# Altium integrated library ball_dropper_rev3.IntLib: 42 symbols
Pins are listed as number, name and electrical type; pins without a type are passive.

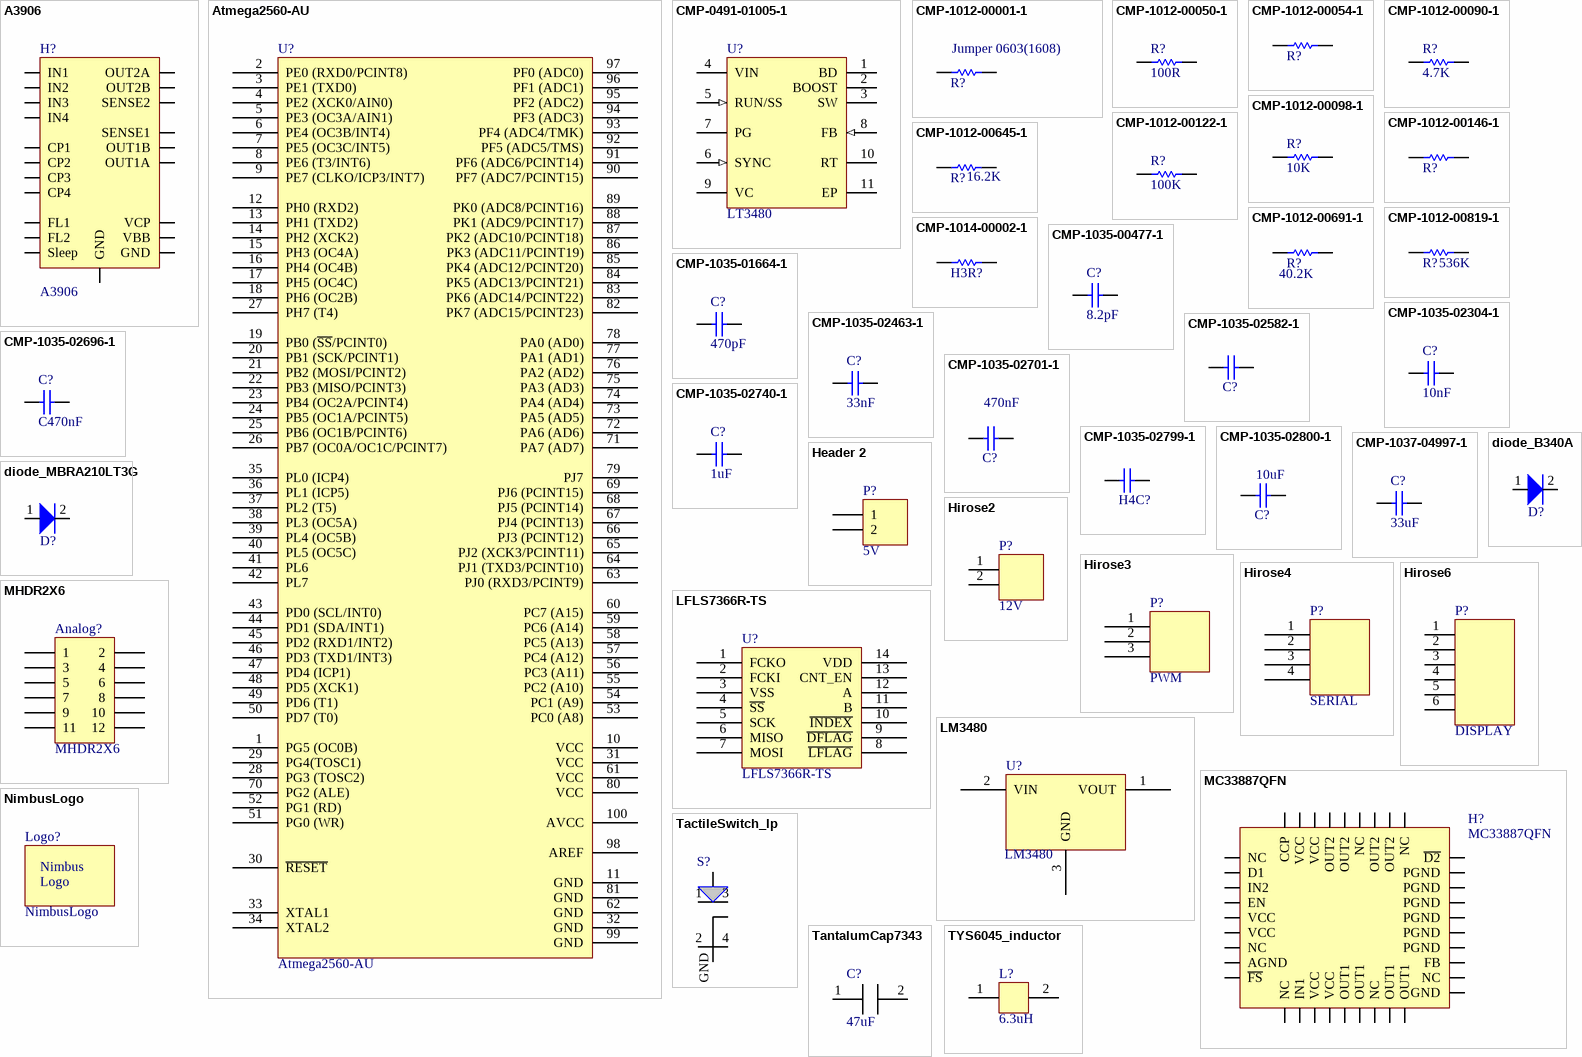
[diagram p0: symbols A3906 to TYS6045_inductor]

## A3906
designator H?
footprint A3906-QFN
pins: 1 CP2, 2 GND, 3 Sleep, 4 IN1, 5 IN2, 6 IN3, 7 IN4, 8 FL1, 9 FL2, 10 OUT2A, 11 SENSE2, 12 OUT2B, 13 VBB, 14 OUT1B, 15 SENSE1, 16 OUT1A, 17 VCP, 18 CP3, 19 CP1, 20 CP4, 21 GND

## Atmega2560-AU
designator U?
ATMEGA2560-16AURCT-ND
footprint TSQFP50P1600X1600X160-100N (TSQFP, 100-Leads, Body 14.00x14.00mm, Pitch 0.50mm, IPC Medium Density)
pins: 1 PG5 (OC0B), 2 PE0 (RXD0/PCINT8), 3 PE1 (TXD0), 4 PE2 (XCK0/AIN0), 5 PE3 (OC3A/AIN1), 6 PE4 (OC3B/INT4), 7 PE5 (OC3C/INT5), 8 PE6 (T3/INT6), 9 PE7 (CLKO/ICP3/INT7), 10 VCC, 11 GND, 12 PH0 (RXD2), 13 PH1 (TXD2), 14 PH2 (XCK2), 15 PH3 (OC4A), 16 PH4 (OC4B), 17 PH5 (OC4C), 18 PH6 (OC2B), 19 PB0 (~{SS}/PCINT0), 20 PB1 (SCK/PCINT1), 21 PB2 (MOSI/PCINT2), 22 PB3 (MISO/PCINT3), 23 PB4 (OC2A/PCINT4), 24 PB5 (OC1A/PCINT5), 25 PB6 (OC1B/PCINT6), 26 PB7 (OC0A/OC1C/PCINT7), 27 PH7 (T4), 28 PG3 (TOSC2), 29 PG4(TOSC1), 30 ~{RESET}, 31 VCC, 32 GND, 33 XTAL1, 34 XTAL2, 35 PL0 (ICP4), 36 PL1 (ICP5), 37 PL2 (T5), 38 PL3 (OC5A), 39 PL4 (OC5B), 40 PL5 (OC5C), 41 PL6, 42 PL7, 43 PD0 (SCL/INT0), 44 PD1 (SDA/INT1), 45 PD2 (RXD1/INT2), 46 PD3 (TXD1/INT3), 47 PD4 (ICP1), 48 PD5 (XCK1), 49 PD6 (T1), 50 PD7 (T0), 51 PG0 (WR), 52 PG1 (RD), 53 PC0 (A8), 54 PC1 (A9), 55 PC2 (A10), 56 PC3 (A11), 57 PC4 (A12), 58 PC5 (A13), 59 PC6 (A14), 60 PC7 (A15), 61 VCC, 62 GND, 63 PJ0 (RXD3/PCINT9), 64 PJ1 (TXD3/PCINT10), 65 PJ2 (XCK3/PCINT11), 66 PJ3 (PCINT12), 67 PJ4 (PCINT13), 68 PJ5 (PCINT14), 69 PJ6 (PCINT15), 70 PG2 (ALE), 71 PA7 (AD7), 72 PA6 (AD6), 73 PA5 (AD5), 74 PA4 (AD4), 75 PA3 (AD3), 76 PA2 (AD2), 77 PA1 (AD1), 78 PA0 (AD0), 79 PJ7, 80 VCC, 81 GND, 82 PK7 (ADC15/PCINT23), 83 PK6 (ADC14/PCINT22), 84 PK5 (ADC13/PCINT21), 85 PK4 (ADC12/PCINT20), 86 PK3 (ADC11/PCINT19), 87 PK2 (ADC10/PCINT18), 88 PK1 (ADC9/PCINT17), 89 PK0 (ADC8/PCINT16), 90 PF7 (ADC7/PCINT15), 91 PF6 (ADC6/PCINT14), 92 PF5 (ADC5/TMS), 93 PF4 (ADC4/TMK), 94 PF3 (ADC3), 95 PF2 (ADC2), 96 PF1 (ADC1), 97 PF0 (ADC0), 98 AREF, 99 GND, 100 AVCC

## CMP-0491-01005-1
designator U?, comment LT3480
2 A, 2.4 MHz Step-Down Switching Regulator with 70 uA Quiescent Current, 10-pin SOP (MSE-10-EDP), -40 to 85 degC, Pb-Free, Tape and Reel; PartNumber: LT3480EMSE#TRPBF; Manufacturer: Linear Technology; Number of Outputs: 1; Over Voltage Protection(V): 60; ComponentLink3Description: Package Specification; PackageVersion: Rev. I, 05/2013; PackageDescription: 10-Pin Plastic MSOP, Exposed Die Pad, Body 3 x 3 mm, Pitch 0.5 mm; ComponentLink1URL: http://www.linear.com/; ComponentLink3URL: http://cds.linear.com/docs/en/packaging/05081664_I_MSE.pdf; ComponentLink1Description: Manufacturer URL; PackageReference: MSE-10; RoHS: TRUE; Packing: Tape and Reel; Mounting Technology: Surface Mount; ComponentLink2Description: Datasheet; ComponentLink2URL: http://cds.linear.com/docs/en/datasheet/3480fe.pdf
footprint LT-MSE-10-EDP_L (SOP, 10-Leads, Body 3.1x3.1mm, Pitch 0.5mm, Thermal Pad 1.88x1.68mm, IPC High Density)
footprint LT-MSE-10-EDP_M (SOP, 10-Leads, Body 3.1x3.1mm, Pitch 0.5mm, Thermal Pad 1.88x1.68mm, IPC Low Density)
footprint LT-MSE-10-EDP_N (SOP, 10-Leads, Body 3.1x3.1mm, Pitch 0.5mm, Thermal Pad 1.88x1.68mm, IPC Medium Density)
pins: 1 BD (power) "This pin connects to the anode of the boost Schottky diode. BD also supplies current to the internal regulator. BD must be locally bypassed when not tied to VOUT with a low ESR capacitor (1uF).", 2 BOOST "This pin is used to provide a drive voltage, higher than the input voltage, to the internal bipolar NPN power switch.", 3 SW (power) "The SW pin is the output of the internal power switch. Connect this pin to the inductor, catch diode and boost capacitor.", 4 VIN (power) "The VIN pin supplies current to the LT3480¡¯s internal regulator and to the internal power switch. This pin must be locally bypassed.", 5 RUN/SS (in) "The RUN/SS pin is used to put the LT3480 in shutdown mode. Tie to ground to shut down the LT3480. Tie to 2.5V or more for normal operation. If the shutdown feature is not used, tie this pin to the VIN pin. RUN/SS also (See Datasheet)", 6 SYNC (in) "This is the external clock synchronization input. Ground this pin for low ripple Burst Mode operation at low output loads. Tie to a clock source for synchronization. Clock edges should have rise and fall times faster than (See Datasheet)", 7 PG (oc) "The PG pin is the open collector output of an internal comparator. PG remains low until the FB pin is within 14% of the final regulation voltage. PG output is valid when VIN is above 3.6V and RUN/SS is high.", 8 FB (in) "The LT3480 regulates the FB pin to 0.790V. Connect the feedback resistor divider tap to this pin.", 9 VC "The VC pin is the output of the internal error amplifier. The voltage on this pin controls the peak switch current. Tie an RC network from this pin to ground to compensate the control loop.", 10 RT "Oscillator Resistor Input. Connecting a resistor to ground from this pin sets the switching frequency.", 11 EP (power) "Ground. The exposed pad must be soldered to PCB."

## CMP-1012-00001-1
designator R?, comment Jumper 0603(1608)
Jumper 0603 (1608 Metric); Case-Metric: 1608; Value: 0.00 Ohm; Power: None; Case-EIA: 0603; Technology: SMT; Tolerance: None
footprint RESC0603(1608)_N (Chip Resistor, Body 1.6x0.8mm, IPC Medium Density)
footprint RESC0603(1608)_L (Chip Resistor, Body 1.6x0.8mm, IPC High Density)
footprint RESC0603(1608)_M (Chip Resistor, Body 1.6x0.8mm, IPC Low Density)
pins: 1, 2
1 alternate drawing of the same symbol

## CMP-1012-00050-1
designator R?, comment 100R
100R 0.1W 5% 0603 (1608 Metric)  SMD; Case-EIA: 0603; Value: 100.00 Ohm; Case-Metric: 1608; Tolerance: 5 %; Technology: SMT; Power: 0.1 W
footprint RESC0603(1608)_L (Chip Resistor, Body 1.6x0.8mm, IPC High Density)
footprint RESC0603(1608)_N (Chip Resistor, Body 1.6x0.8mm, IPC Medium Density)
footprint RESC0603(1608)_M (Chip Resistor, Body 1.6x0.8mm, IPC Low Density)
pins: 1, 2
1 alternate drawing of the same symbol

## CMP-1012-00054-1
designator R?, comment 150R 5% 0603(1608)  (value not drawn)
150R 0.1W 5% 0603 (1608 Metric)  SMD; Case-EIA: 0603; Value: 150.00 Ohm; Case-Metric: 1608; Power: 0.1 W; Tolerance: 5 %; Technology: SMT
footprint RESC0603(1608)_L (Chip Resistor, Body 1.6x0.8mm, IPC High Density)
footprint RESC0603(1608)_N (Chip Resistor, Body 1.6x0.8mm, IPC Medium Density)
footprint RESC0603(1608)_M (Chip Resistor, Body 1.6x0.8mm, IPC Low Density)
pins: 1, 2
1 alternate drawing of the same symbol

## CMP-1012-00090-1
designator R?, comment 4.7K
4K7 0.1W 5% 0603 (1608 Metric)  SMD; Case-Metric: 1608; Value: 4700.00 Ohm; Case-EIA: 0603; Tolerance: 5 %; Technology: SMT; Power: 0.1 W
footprint RESC0603(1608)_N (Chip Resistor, Body 1.6x0.8mm, IPC Medium Density)
footprint RESC0603(1608)_M (Chip Resistor, Body 1.6x0.8mm, IPC Low Density)
footprint RESC0603(1608)_L (Chip Resistor, Body 1.6x0.8mm, IPC High Density)
pins: 1, 2
1 alternate drawing of the same symbol

## CMP-1012-00098-1
designator R?, comment 10K
10K 0.1W 5% 0603 (1608 Metric)  SMD; Case-EIA: 0603; Value: 10000.00 Ohm; Case-Metric: 1608; Technology: SMT; Tolerance: 5 %; Power: 0.1 W
footprint RESC0603(1608)_N (Chip Resistor, Body 1.6x0.8mm, IPC Medium Density)
footprint RESC0603(1608)_L (Chip Resistor, Body 1.6x0.8mm, IPC High Density)
footprint RESC0603(1608)_M (Chip Resistor, Body 1.6x0.8mm, IPC Low Density)
pins: 1, 2
1 alternate drawing of the same symbol

## CMP-1012-00122-1
designator R?, comment 100K
100K 0.1W 5% 0603 (1608 Metric)  SMD; Case-EIA: 0603; Value: 100000.00 Ohm; Case-Metric: 1608; Tolerance: 5 %; Power: 0.1 W; Technology: SMT
footprint RESC0603(1608)_N (Chip Resistor, Body 1.6x0.8mm, IPC Medium Density)
footprint RESC0603(1608)_L (Chip Resistor, Body 1.6x0.8mm, IPC High Density)
footprint RESC0603(1608)_M (Chip Resistor, Body 1.6x0.8mm, IPC Low Density)
pins: 1, 2
1 alternate drawing of the same symbol

## CMP-1012-00146-1
designator R?, comment 1M 5% 0603(1608)  (value not drawn)
1M 0.1W 5% 0603 (1608 Metric)  SMD; Case-EIA: 0603; Value: 1000000.00 Ohm; Case-Metric: 1608; Technology: SMT; Power: 0.1 W; Tolerance: 5 %
footprint RESC0603(1608)_N (Chip Resistor, Body 1.6x0.8mm, IPC Medium Density)
footprint RESC0603(1608)_L (Chip Resistor, Body 1.6x0.8mm, IPC High Density)
footprint RESC0603(1608)_M (Chip Resistor, Body 1.6x0.8mm, IPC Low Density)
pins: 1, 2
1 alternate drawing of the same symbol

## CMP-1012-00645-1
designator R?, comment 16.2K
16K2 0.1W 1% 0603 (1608 Metric)  SMD; Case-EIA: 0603; Value: 16200.00 Ohm; Case-Metric: 1608; Power: 0.1 W; Tolerance: 1 %; Technology: SMT
footprint RESC0603(1608)_N (Chip Resistor, Body 1.6x0.8mm, IPC Medium Density)
footprint RESC0603(1608)_M (Chip Resistor, Body 1.6x0.8mm, IPC Low Density)
footprint RESC0603(1608)_L (Chip Resistor, Body 1.6x0.8mm, IPC High Density)
pins: 1, 2
1 alternate drawing of the same symbol

## CMP-1012-00691-1
designator R?, comment 40.2K
40K2 0.1W 1% 0603 (1608 Metric)  SMD; Case-Metric: 1608; Value: 40200.00 Ohm; Case-EIA: 0603; Tolerance: 1 %; Technology: SMT; Power: 0.1 W
footprint RESC0603(1608)_M (Chip Resistor, Body 1.6x0.8mm, IPC Low Density)
footprint RESC0603(1608)_L (Chip Resistor, Body 1.6x0.8mm, IPC High Density)
footprint RESC0603(1608)_N (Chip Resistor, Body 1.6x0.8mm, IPC Medium Density)
pins: 1, 2
1 alternate drawing of the same symbol

## CMP-1012-00819-1
designator R?, comment 536K
536K 0.1W 1% 0603 (1608 Metric)  SMD; Case-EIA: 0603; Case-Metric: 1608; Value: 536000.00 Ohm; Tolerance: 1 %; Power: 0.1 W; Technology: SMT
footprint RESC0603(1608)_M (Chip Resistor, Body 1.6x0.8mm, IPC Low Density)
footprint RESC0603(1608)_N (Chip Resistor, Body 1.6x0.8mm, IPC Medium Density)
footprint RESC0603(1608)_L (Chip Resistor, Body 1.6x0.8mm, IPC High Density)
pins: 1, 2
1 alternate drawing of the same symbol

## CMP-1014-00002-1
designator H3R?, comment 0.2R 5% 1206(3216)  (value not drawn)
0.2R 0.25W 5% 1206 (3216 Metric)  SMD; Value: 1.00 Ohm; Case-EIA: 1206; Case-Metric: 3216; Technology: SMT; Tolerance: 5 %; Power: 0.25 W
footprint RESC1206(3216)_L (Chip Resistor, Body 3.2x1.6mm, IPC High Density)
footprint RESC1206(3216)_N (Chip Resistor, Body 3.2x1.6mm, IPC Medium Density)
footprint RESC1206(3216)_M (Chip Resistor, Body 3.2x1.6mm, IPC Low Density)
pins: 1, 2
1 alternate drawing of the same symbol

## CMP-1035-00477-1
designator C?, comment 8.2pF
CAP 8.2pF 10V ±0.1pF 0603 (1608 Metric) Thickness 1mm SMD; Case-EIA: 0603; Case-Metric: 1608; Tolerance: ±0.1pF; Max Thickness: 1 mm; Value: 8.2pF; Technology: SMT; Rated Voltage: 10 V
footprint CAPC0603(1608)100_L (Chip Capacitor, Body 1.6x0.8mm, Height 1.0mm, IPC High Density)
footprint CAPC0603(1608)100_M (Chip Capacitor, Body 1.6x0.8mm, Height 1.0mm, IPC Low Density)
footprint CAPC0603(1608)100_N (Chip Capacitor, Body 1.6x0.8mm, Height 1.0mm, IPC Medium Density)
pins: 1, 2
1 alternate drawing of the same symbol

## CMP-1035-01664-1
designator C?, comment 470pF
CAP 470pF 16V ±2% 0603 (1608 Metric) Thickness 1mm SMD; Case-EIA: 0603; Case-Metric: 1608; Rated Voltage: 16 V; Max Thickness: 1 mm; Tolerance: ±2%; Technology: SMT; Value: 470pF
footprint CAPC0603(1608)100_L (Chip Capacitor, Body 1.6x0.8mm, Height 1.0mm, IPC High Density)
footprint CAPC0603(1608)100_M (Chip Capacitor, Body 1.6x0.8mm, Height 1.0mm, IPC Low Density)
footprint CAPC0603(1608)100_N (Chip Capacitor, Body 1.6x0.8mm, Height 1.0mm, IPC Medium Density)
pins: 1, 2
1 alternate drawing of the same symbol

## CMP-1035-02304-1
designator C?, comment 10nF
CAP 10nF 10V ±2% 0603 (1608 Metric) Thickness 1mm SMD; Case-EIA: 0603; Case-Metric: 1608; Technology: SMT; Tolerance: ±2%; Rated Voltage: 10 V; Value: 10nF; Max Thickness: 1 mm
footprint CAPC0603(1608)100_M (Chip Capacitor, Body 1.6x0.8mm, Height 1.0mm, IPC Low Density)
footprint CAPC0603(1608)100_N (Chip Capacitor, Body 1.6x0.8mm, Height 1.0mm, IPC Medium Density)
footprint CAPC0603(1608)100_L (Chip Capacitor, Body 1.6x0.8mm, Height 1.0mm, IPC High Density)
pins: 1, 2
1 alternate drawing of the same symbol

## CMP-1035-02463-1
designator C?, comment 33nF
CAP 33nF 25V ±5% 0603 (1608 Metric) Thickness 1mm SMD; Case-Metric: 1608; Case-EIA: 0603; Technology: SMT; Value: 33nF; Max Thickness: 1 mm; Rated Voltage: 25 V; Tolerance: ±5%
footprint CAPC0603(1608)100_M (Chip Capacitor, Body 1.6x0.8mm, Height 1.0mm, IPC Low Density)
footprint CAPC0603(1608)100_N (Chip Capacitor, Body 1.6x0.8mm, Height 1.0mm, IPC Medium Density)
footprint CAPC0603(1608)100_L (Chip Capacitor, Body 1.6x0.8mm, Height 1.0mm, IPC High Density)
pins: 1, 2
1 alternate drawing of the same symbol

## CMP-1035-02582-1
designator C?, comment 100nF  (value not drawn)
CAP 100nF 10V -20% to +80% 0603 (1608 Metric) Thickness 1mm SMD; Case-Metric: 1608; Case-EIA: 0603; Rated Voltage: 10 V; Value: 100nF; Technology: SMT; Max Thickness: 1 mm; Tolerance: -20% to +80%
footprint CAPC0603(1608)100_N (Chip Capacitor, Body 1.6x0.8mm, Height 1.0mm, IPC Medium Density)
footprint CAPC0603(1608)100_L (Chip Capacitor, Body 1.6x0.8mm, Height 1.0mm, IPC High Density)
footprint CAPC0603(1608)100_M (Chip Capacitor, Body 1.6x0.8mm, Height 1.0mm, IPC Low Density)
pins: 1, 2
1 alternate drawing of the same symbol

## CMP-1035-02696-1
designator C?, comment C470nF
CAP 470nF 10V ±10% 0603 (1608 Metric) Thickness 1mm SMD; Case-EIA: 0603; Case-Metric: 1608; Tolerance: ±10%; Max Thickness: 1 mm; Value: 470nF; Technology: SMT; Rated Voltage: 10 V
footprint CAPC0603(1608)100_N (Chip Capacitor, Body 1.6x0.8mm, Height 1.0mm, IPC Medium Density)
footprint CAPC0603(1608)100_M (Chip Capacitor, Body 1.6x0.8mm, Height 1.0mm, IPC Low Density)
footprint CAPC0603(1608)100_L (Chip Capacitor, Body 1.6x0.8mm, Height 1.0mm, IPC High Density)
pins: 1, 2
1 alternate drawing of the same symbol

## CMP-1035-02701-1
designator C?, comment 470nF
CAP 470nF 16V ±20% 0603 (1608 Metric) Thickness 1mm SMD; Case-EIA: 0603; Case-Metric: 1608; Rated Voltage: 16 V; Max Thickness: 1 mm; Value: 470nF; Technology: SMT; Tolerance: ±20%
footprint CAPC0603(1608)100_N (Chip Capacitor, Body 1.6x0.8mm, Height 1.0mm, IPC Medium Density)
footprint CAPC0603(1608)100_M (Chip Capacitor, Body 1.6x0.8mm, Height 1.0mm, IPC Low Density)
footprint CAPC0603(1608)100_L (Chip Capacitor, Body 1.6x0.8mm, Height 1.0mm, IPC High Density)
pins: 1, 2
1 alternate drawing of the same symbol

## CMP-1035-02740-1
designator C?, comment 1uF
CAP 1uF 25V ±10% 0603 (1608 Metric) Thickness 1mm SMD; Case-Metric: 1608; Case-EIA: 0603; Technology: SMT; Tolerance: ±10%; Rated Voltage: 25 V; Max Thickness: 1 mm; Value: 1uF
footprint CAPC0603(1608)100_L (Chip Capacitor, Body 1.6x0.8mm, Height 1.0mm, IPC High Density)
footprint CAPC0603(1608)100_N (Chip Capacitor, Body 1.6x0.8mm, Height 1.0mm, IPC Medium Density)
footprint CAPC0603(1608)100_M (Chip Capacitor, Body 1.6x0.8mm, Height 1.0mm, IPC Low Density)
pins: 1, 2
1 alternate drawing of the same symbol

## CMP-1035-02799-1
designator H4C?, comment CAP 10uF 10V 0603(1608)  (value not drawn)
CAP 10uF 10V Â±10% 0603 (1608 Metric) Thickness 1mm SMD; Case-Metric: 1608; Case-EIA: 0603; Max Thickness: 1 mm; Tolerance: Â±10%; Technology: SMT; Rated Voltage: 10 V; Value: 10uF
footprint CAPC0603(1608)100_N (Chip Capacitor, Body 1.6x0.8mm, Height 1.0mm, IPC Medium Density)
footprint CAPC0603(1608)100_M (Chip Capacitor, Body 1.6x0.8mm, Height 1.0mm, IPC Low Density)
footprint CAPC0603(1608)100_L (Chip Capacitor, Body 1.6x0.8mm, Height 1.0mm, IPC High Density)
pins: 1, 2
1 alternate drawing of the same symbol

## CMP-1035-02800-1
designator C?, comment 10uF
CAP 10uF 10V ±20% 0603 (1608 Metric) Thickness 1mm SMD; Case-EIA: 0603; Case-Metric: 1608; Tolerance: ±20%; Max Thickness: 1 mm; Rated Voltage: 10 V; Technology: SMT; Value: 10uF
footprint CAPC0603(1608)100_M (Chip Capacitor, Body 1.6x0.8mm, Height 1.0mm, IPC Low Density)
footprint CAPC0603(1608)100_N (Chip Capacitor, Body 1.6x0.8mm, Height 1.0mm, IPC Medium Density)
footprint CAPC0603(1608)100_L (Chip Capacitor, Body 1.6x0.8mm, Height 1.0mm, IPC High Density)
pins: 1, 2
1 alternate drawing of the same symbol

## CMP-1037-04997-1
designator C?, comment 33uF
CAP 33uF 10V ±20% 1206 (3216 Metric) Thickness 1.9mm SMD; Case-EIA: 1206; Case-Metric: 3216; Technology: SMT; Max Thickness: 1.9 mm; Rated Voltage: 10 V; Tolerance: ±20%; Value: 33uF
footprint CAPC1206(3216)190_M (Chip Capacitor, Body 3.2x1.6mm, Height 1.9mm, IPC Low Density)
footprint CAPC1206(3216)190_L (Chip Capacitor, Body 3.2x1.6mm, Height 1.9mm, IPC High Density)
footprint CAPC1206(3216)190_N (Chip Capacitor, Body 3.2x1.6mm, Height 1.9mm, IPC Medium Density)
pins: 1, 2
1 alternate drawing of the same symbol

## diode_B340A
designator D?  (value not drawn)
footprint diode_B340A (Molded Diode, 2-Leads, Body 4.25x2.68mm, IPC Medium Density)
pins: 1 5, 2 6

## diode_MBRA210LT3G
designator D?  (value not drawn)
footprint diode_MBRA210LT3G (Molded Diode, 2-Leads, Body 4.31x2.60mm, IPC Medium Density)
footprint C1206 (Chip Capacitor, Body 3.2x1.6mm, IPC High Density)
pins: 1 5, 2 6

## Header 2
designator P?, comment 5V
Header, 2-Pin; LatestRevisionDate: 17-Jul-2002; LatestRevisionNote: Re-released for DXP Platform.; Publisher: Altium Limited
footprint HDR1X2 (Connector; Header; 2 Position)
signal-integrity model Connector
footprint DF3A-2P-2DS (Two terminal, Right Angle Connector)
pins: 1, 2

## Hirose2
designator P?, comment 12V
footprint DF3A-2P-2DS (Two terminal, Right Angle Connector)
footprint DF3A-2P-2DS - Jumper (2mm spacing jumper)
footprint DF3A-2P-2DS Vert (Two terminal, Vertical Connector)
pins: 1, 2

## Hirose3
designator P?, comment PWM
footprint DF3A-3P-2DS
footprint DF3A-3P-2DS-RA
pins: 1 7, 2 8, 3 9

## Hirose4
designator P?, comment SERIAL
footprint DF3A-4P-2DS (Hirose 4 Pin)
footprint DF3A-4P-2DS-RA (Hirose 4 Pin, Right Angle Connector)
pins: 1 7, 2 8, 3 9, 4

## Hirose6
designator P?, comment DISPLAY
footprint DF3A-6P-2DS
footprint DF3A-6P-2DS
pins: 1, 2, 3, 4, 5, 6

## LFLS7366R-TS
designator U?
footprint LS7366R (TSOP, 14-Leads, Body 8.65x3.90mm, Pitch 1.27mm, IPC Medium Density)
footprint LS7366RTS (TSOP, 14-Leads, Body 5.00x4.50mm, Pitch 0.65mm, IPC Medium Density)
pins: 1 FCKO, 2 FCKI, 3 VSS, 4 ~{SS}, 5 SCK, 6 MISO, 7 MOSI, 8 ~{LFLAG}, 9 ~{DFLAG}, 10 ~{INDEX}, 11 B, 12 A, 13 CNT_EN, 14 VDD

## LM3480
designator U?
LM3480IM3-3.3/NOPBCT-ND
footprint LM3480 (SOT23, 3-Leads, Body 2.92x2.37mm, Pitch 0.95mm, IPC Medium Density)
pins: 1 VOUT, 2 VIN, 3 GND

## MC33887QFN
designator H?
footprint MC33887-QFN (QFN, 32-Leads, Body 9.00x9.00mm, Pitch 0.80mm, Thermal Pad 6.00x6.00mm, IPC Medium Density)
pins: 1 NC, 2 D1, 3 IN2, 4 EN, 5 VCC, 6 VCC, 7 NC, 8 AGND, 9 ~{FS}, 10 NC, 11 IN1, 12 VCC, 13 VCC, 14 OUT1, 15 OUT1, 16 NC, 17 OUT1, 18 OUT1, 19 NC, 20 FB, 21 PGND, 22 PGND, 23 PGND, 24 PGND, 25 PGND, 26 PGND, 27 ~{D2}, 28 NC, 29 OUT2, 30 OUT2, 31 NC, 32 OUT2, 33 OUT2, 34 VCC, 35 VCC, 36 CCP, 37 GND

## MHDR2X6
designator Analog?
Header, 6-Pin, Dual row; LatestRevisionDate: 17-Jul-2002; LatestRevisionNote: Re-released for DXP Platform.; Publisher: Altium Limited
footprint MHDR2X6 (Connector; Header; 6x2 Position)
signal-integrity model Connector
pins: 1, 2, 3, 4, 5, 6, 7, 8, 9, 10, 11, 12

## NimbusLogo
designator Logo?
footprint NIMBUS Logo (NIMBUS Logo Silkscreen)
text: Nimbus; Logo

## TactileSwitch_lp
designator S?  (value not drawn)
footprint LOW_PROFILE_W_GND
pins: 1 GND, 2 GND, 3 GND, 4 GND, GND

## TantalumCap7343
designator C?, comment 47uF
C: 47uF
footprint TantalumCap7343
pins: 1 VCC, 2 GND

## TYS6045_inductor
designator L?, comment 6.3uH
footprint TYS6045 (Chip Inductor, 2-Leads, Body 6.00x6.00mm, IPC Medium Density)
footprint CDRH62B (Sumida Power Inductor)
pins: 1, 2

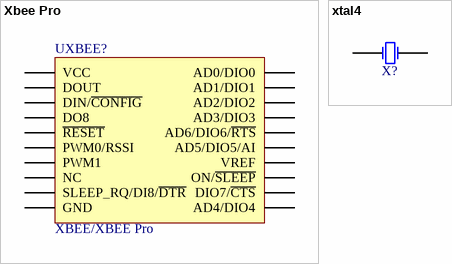
[diagram p1: symbols Xbee Pro to xtal4]

## Xbee Pro
designator UXBEE?, comment XBEE/XBEE Pro
footprint XBEE PRO
footprint XBEE - Surface Mount (XBEE, Mounted on NorComp 28631006RP2 Headers)
footprint XBEE
pins: 1 VCC, 2 DOUT, 3 DIN/~{CONFIG}, 4 DO8, 5 ~{RESET}, 6 PWM0/RSSI, 7 PWM1, 8 NC, 9 SLEEP_RQ/DI8/~{DTR}, 10 GND, 11 AD4/DIO4, 12 DIO7/~{CTS}, 13 ON/~{SLEEP}, 14 VREF, 15 AD5/DIO5/AI, 16 AD6/DIO6/~{RTS}, 17 AD3/DIO3, 18 AD2/DIO2, 19 AD1/DIO1, 20 AD0/DIO0

## xtal4
designator X?, comment 40MHz  (value not drawn)
footprint xtal4
pins: 2 OSC2, 4 OSC1